# Altium footprint library HGH.PcbLib: 336 footprints (part 10 of 21)
Each footprint in its own frame and in the unit in brackets; x right, y up, seen from the top. Pads: shape width x height; smd on the part's side, far side on the other; paste and mask are expansions set on the pad; w line width, h text height; cw(c..) or ccw(c..) is an arc to the next point about the centre after c.
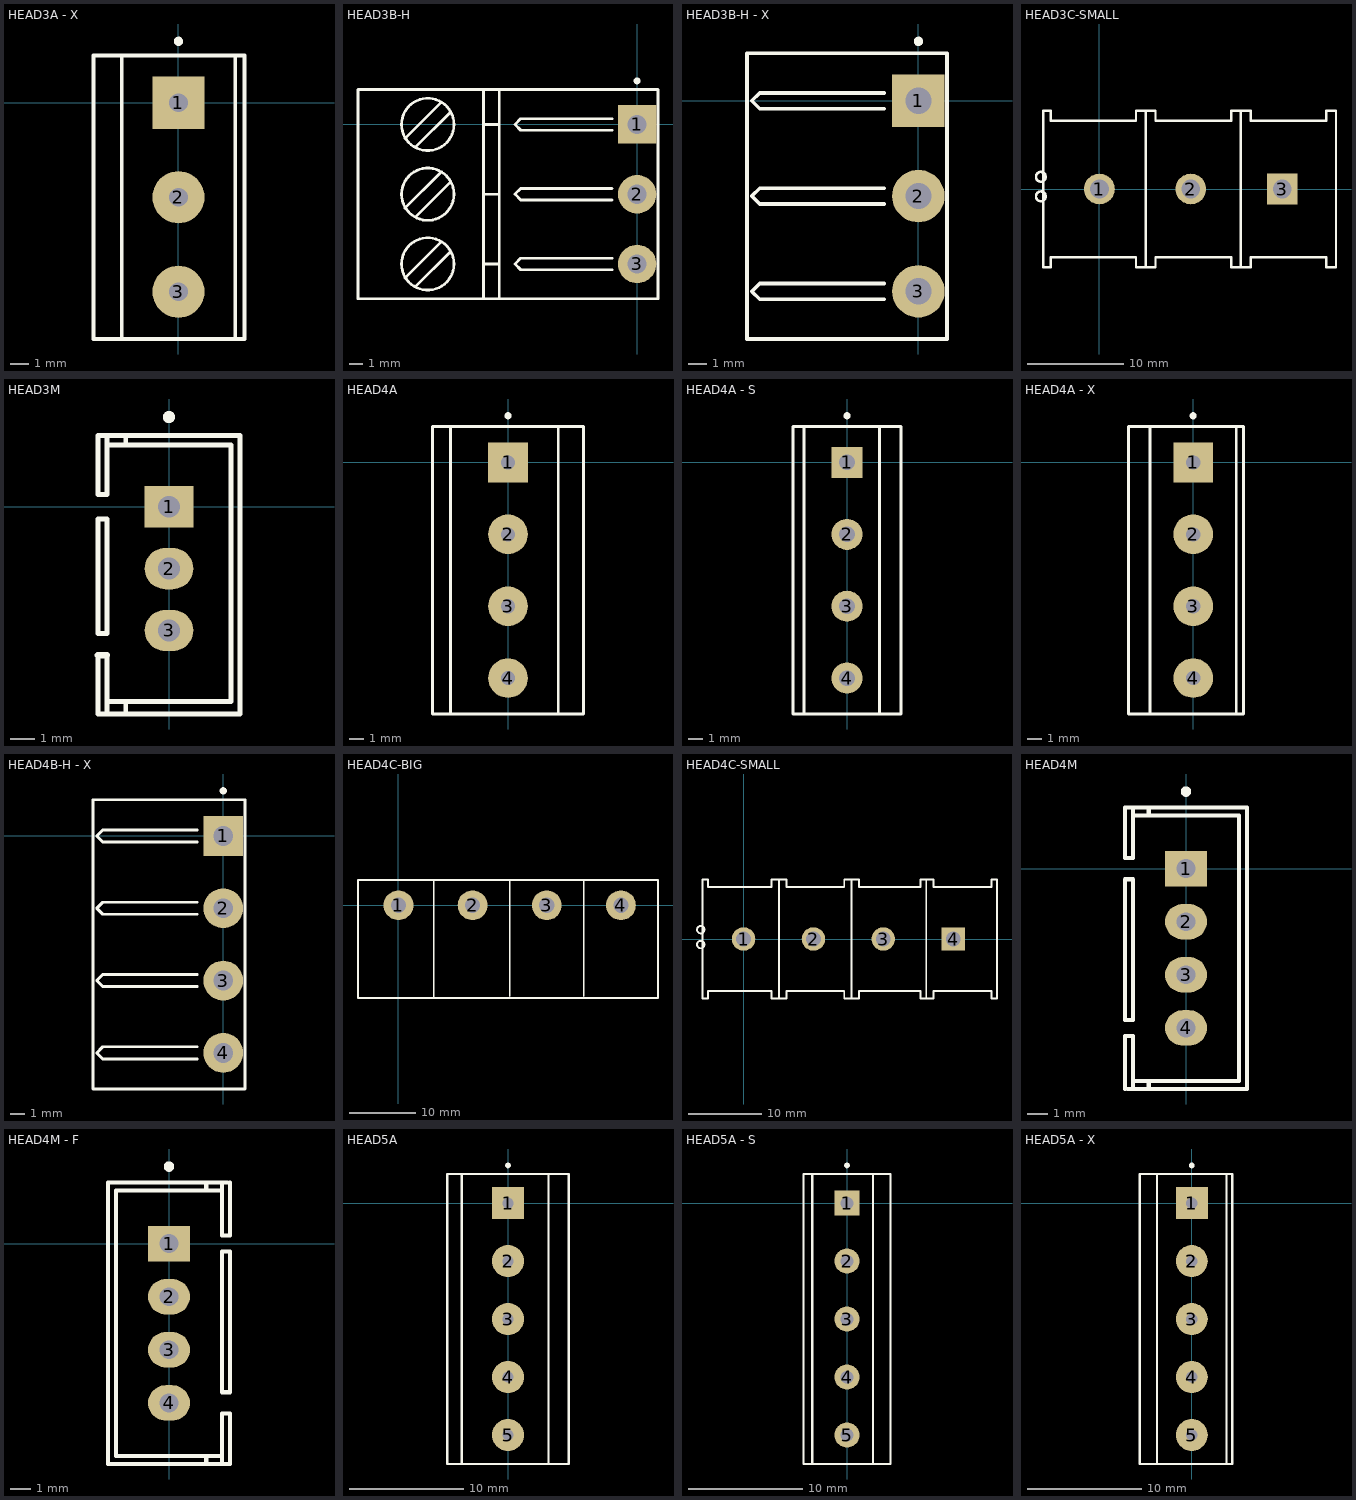
[diagram p9: the footprints below, top view; thin cyan lines are the x and y axes]

## HEAD3A - X [mm]
pads (3):
  rect 2.8x2.8 hole 1: 1(0,0)
  round 2.8 hole 1: 2(0,-5.08) 3(0,-10.16)
Top Overlay:
  circle w0.25: c0,3.3 r0.125
  lines w0.2: -3.048,-12.7 -3.048,2.54 ; 3.048,-12.7 3.048,2.54 ; -4.572,-12.7 3.556,-12.7 3.556,2.54 -4.572,2.54 -4.572,-12.7

## HEAD3B-H [mm]
pads (3):
  rect 2.8x2.8 hole 1.4: 1(0,0)
  round 2.8 hole 1.4: 2(0,-5.08) 3(0,-10.16)
Top Overlay:
  circle w0.25: c0,3.173 r0.125
  circle w0.2: c-15.24,0 r1.905
  circle w0.2: c-15.24,-5.08 r1.905
  circle w0.2: c-15.24,-10.16 r1.905
  lines w0.2: -16.891,-11.176 -14.351,-8.636 ; -16.891,-6.096 -14.351,-3.556 ; -16.891,-1.016 -14.351,1.524 ; -16.129,-11.811 -13.589,-9.271 ; -16.129,-6.731 -13.589,-4.191 ; -16.129,-1.651 -13.589,0.889 ; -11.176,-10.16 -10.033,-10.16 ; -11.176,-5.08 -10.033,-5.08 ; -11.176,0 -10.033,0 ; -11.176,2.54 -11.176,-12.7 ; -10.033,-12.7 -10.033,2.54 ; -1.82,-10.583 -8.467,-10.583 -8.89,-10.16 -8.467,-9.737 -1.82,-9.737 ; -1.82,-5.503 -8.467,-5.503 -8.89,-5.08 -8.467,-4.657 -1.82,-4.657 ; -1.82,-0.423 -8.467,-0.423 -8.89,0 -8.467,0.423 -1.82,0.423 ; -11.176,-12.7 -20.32,-12.7 -20.32,2.54 1.524,2.54 1.524,-12.7 -11.176,-12.7

## HEAD3B-H - X [mm]
pads (3):
  rect 2.8x2.8 hole 1.4: 1(0,0)
  round 2.8 hole 1.4: 2(0,-5.08) 3(0,-10.16)
Top Overlay:
  circle w0.25: c0,3.173 r0.125
  lines w0.2: -1.82,-10.583 -8.467,-10.583 -8.89,-10.16 -8.467,-9.737 -1.82,-9.737 ; -1.82,-5.503 -8.467,-5.503 -8.89,-5.08 -8.467,-4.657 -1.82,-4.657 ; -1.82,-0.423 -8.467,-0.423 -8.89,0 -8.467,0.423 -1.82,0.423 ; -9.144,-12.7 -9.144,2.54 1.524,2.54 1.524,-12.7 -9.144,-12.7

## HEAD3C-SMALL [mm]
pads (3):
  round 3.2 hole 2: 1(0,0)
  round 3.2 hole 1.95: 2(9.525,0)
  rect 3.2x3.2 hole 1.95: 3(19.05,0)
Top Overlay:
  circle w0.254: c-6.096,-0.762 r0.508
  circle w0.254: c-6.096,1.27 r0.508
  lines w0.254: 4.064,-8.128 5.842,-8.128 5.842,-7.112 13.716,-7.112 13.716,-8.128 14.732,-8.128 ; 4.318,-8.128 3.81,-8.128 3.81,-7.112 -5.08,-7.112 -5.08,-8.128 -5.842,-8.128 -5.842,8.128 -5.08,8.128 -5.08,7.112 3.81,7.112 3.81,8.128 5.842,8.128 5.842,7.112 13.716,7.112 13.716,8.128 14.732,8.128 ; 4.826,-8.128 4.826,8.128 ; 14.732,-8.128 14.732,8.128 ; 14.732,-8.128 14.732,8.128 ; 14.732,-8.128 15.748,-8.128 15.748,-7.112 23.622,-7.112 23.622,-8.128 24.638,-8.128 24.638,8.128 23.622,8.128 23.622,7.112 15.748,7.112 15.748,8.128 14.732,8.128

## HEAD3M [mm]
pads (3):
  rect 2x1.7 hole 0.9: 1(0,0)
  oval 2x1.7 hole 0.9: 2(0,-2.54) 3(0,-5.08)
Top Overlay:
  circle w0.25: c0,3.681 r0.125
  lines w0.2: -2.921,-6.096 -2.921,-8.509 2.921,-8.509 2.921,2.921 -2.921,2.921 -2.921,0.508 -2.54,0.508 -2.54,2.54 ; -2.54,-8.509 -2.54,-6.096 ; -2.54,-8.001 2.54,-8.001 2.54,2.54 -2.54,2.54 ; -2.54,2.794 -2.54,2.54 ; -1.778,-8.509 -1.778,-8.128 ; -1.778,2.54 -1.778,2.921 ; -2.921,-5.207 -2.921,-0.508 -2.54,-0.508 -2.54,-5.207 -2.921,-5.207
  lines w0.254: -2.921,-6.096 -2.54,-6.096

## HEAD4A [mm]
pads (4):
  rect 2.8x2.8 hole 1: 1(0,0)
  round 2.8 hole 1: 2(0,-5.08) 3(0,-10.16) 4(0,-15.24)
Top Overlay:
  circle w0.25: c0,3.3 r0.125
  lines w0.2: -4.064,-17.78 -4.064,-7.62 -4.064,2.54 ; 3.556,-17.78 3.556,-7.62 3.556,2.54 ; -5.334,-17.78 -5.334,-7.62 -5.334,2.54 5.334,2.54 5.334,-7.62 5.334,-17.78 -5.334,-17.78

## HEAD4A - S [mm]
pads (4):
  rect 2.2x2.2 hole 1.1: 1(0,0)
  round 2.2 hole 1.1: 2(0,-5.08) 3(0,-10.16) 4(0,-15.24)
Top Overlay:
  circle w0.25: c0,3.3 r0.125
  lines w0.2: -3.048,-17.78 -3.048,-7.62 -3.048,2.54 ; 2.286,-17.78 2.286,-7.62 2.286,2.54 ; -3.81,-17.78 3.81,-17.78 3.81,-7.62 3.81,2.54 -3.81,2.54 -3.81,-7.62 -3.81,-17.78

## HEAD4A - X [mm]
pads (4):
  rect 2.8x2.8 hole 1: 1(0,0)
  round 2.8 hole 1: 2(0,-5.08) 3(0,-10.16) 4(0,-15.24)
Top Overlay:
  circle w0.25: c0,3.3 r0.125
  lines w0.2: -3.048,-17.78 -3.048,2.54 ; 3.048,-17.78 3.048,2.54 ; -4.572,-17.78 3.556,-17.78 3.556,2.54 -4.572,2.54 -4.572,-17.78

## HEAD4B-H - X [mm]
pads (4):
  rect 2.8x2.8 hole 1.4: 1(0,0)
  round 2.8 hole 1.4: 2(0,-5.08) 3(0,-10.16) 4(0,-15.24)
Top Overlay:
  circle w0.25: c0,3.173 r0.125
  lines w0.2: -1.82,-15.663 -8.467,-15.663 -8.89,-15.24 -8.467,-14.817 -1.82,-14.817 ; -1.82,-10.583 -8.467,-10.583 -8.89,-10.16 -8.467,-9.737 -1.82,-9.737 ; -1.82,-5.503 -8.467,-5.503 -8.89,-5.08 -8.467,-4.657 -1.82,-4.657 ; -1.82,-0.423 -8.467,-0.423 -8.89,0 -8.467,0.423 -1.82,0.423 ; -9.144,-17.78 -9.144,-7.62 -9.144,2.54 1.524,2.54 1.524,-7.62 1.524,-17.78 -9.144,-17.78

## HEAD4C-BIG [mm]
pads (4):
  round 4.5 hole 2.3: 1(0,0) 2(11.176,0) 3(22.352,0) 4(33.528,0)
Top Overlay:
  lines w0.254: 4.826,3.81 5.842,3.81 ; 5.334,-13.97 5.334,3.81 ; 16.764,-13.716 16.764,3.81 ; 27.94,-13.716 27.94,3.81 ; 39.116,-13.97 39.116,3.81 ; 39.116,-13.97 39.116,3.81 ; 39.116,-13.97 -6.096,-13.97 -6.096,3.81 39.116,3.81

## HEAD4C-SMALL [mm]
pads (4):
  round 3.2 hole 2: 1(0,0) 2(9.525,0) 3(19.05,0)
  rect 3.2x3.2 hole 2: 4(28.575,0)
Top Overlay:
  circle w0.254: c-5.842,1.27 r0.508
  circle w0.254: c-5.842,-0.762 r0.508
  lines w0.254: 4.064,-8.128 5.842,-8.128 5.842,-7.112 13.716,-7.112 13.716,-8.128 14.732,-8.128 ; 4.318,-8.128 3.81,-8.128 3.81,-7.112 -4.826,-7.112 -4.826,-8.128 -5.588,-8.128 -5.588,8.128 -4.826,8.128 -4.826,7.112 3.81,7.112 3.81,8.128 5.842,8.128 5.842,7.112 13.716,7.112 13.716,8.128 14.732,8.128 ; 4.826,-8.128 4.826,8.128 ; 25.146,-8.128 24.13,-8.128 24.13,-7.112 15.748,-7.112 15.748,-8.128 14.732,-8.128 ; 25.146,8.128 24.13,8.128 24.13,7.112 15.748,7.112 15.748,8.128 14.732,8.128 ; 33.782,-7.874 33.782,-7.112 25.908,-7.112 25.908,-8.128 24.892,-8.128 ; 33.782,-7.62 33.782,-8.128 34.544,-8.128 34.544,-7.874 34.544,-3.556 34.544,0.254 34.544,8.128 34.036,8.128 33.782,8.128 33.782,7.112 25.908,7.112 25.908,8.128 24.892,8.128 ; 14.732,-8.128 14.732,8.128 ; 14.732,-8.128 14.732,8.128 ; 24.892,-8.128 24.892,8.128 ; 24.892,-8.128 24.892,8.128 ; 24.892,-8.128 24.892,8.128

## HEAD4M [mm]
pads (4):
  rect 2x1.7 hole 0.9: 1(0,0)
  oval 2x1.7 hole 0.9: 2(0,-2.54) 3(0,-5.08) 4(0,-7.62)
Top Overlay:
  circle w0.25: c0,3.681 r0.125
  lines w0.2: -2.921,-10.541 -2.921,-8.001 -2.54,-8.001 -2.54,-10.414 ; -2.794,-10.541 2.921,-10.541 2.921,2.921 -2.921,2.921 -2.921,0.508 -2.54,0.508 -2.54,2.54 ; -2.54,-10.16 2.54,-10.16 2.54,2.54 -2.54,2.54 ; -2.54,2.794 -2.54,2.54 ; -1.778,-10.541 -1.778,-10.16 ; -1.778,2.54 -1.778,2.921 ; -2.921,-7.239 -2.921,-0.508 -2.54,-0.508 -2.54,-7.239 -2.921,-7.239

## HEAD4M - F [mm]
pads (4):
  rect 2x1.7 hole 0.9: 1(0,0)
  oval 2x1.7 hole 0.9: 2(0,-2.54) 3(0,-5.08) 4(0,-7.62)
Top Overlay:
  circle w0.25: c0,3.681 r0.125
  lines w0.2: 1.778,-10.541 1.778,-10.16 ; 1.778,2.54 1.778,2.921 ; 2.54,-10.414 2.54,-10.16 ; 2.54,2.54 -2.54,2.54 -2.54,-10.16 2.54,-10.16 ; 2.54,2.794 2.54,0.381 2.921,0.381 2.921,2.921 ; 2.794,2.921 -2.921,2.921 -2.921,-10.541 2.921,-10.541 2.921,-8.128 2.54,-8.128 2.54,-10.16 ; 2.54,-7.112 2.921,-7.112 2.921,-0.381 2.54,-0.381 2.54,-7.112

## HEAD5A [mm]
pads (5):
  rect 2.8x2.8 hole 1: 1(0,0)
  round 2.8 hole 1: 2(0,-5.08) 3(0,-10.16) 4(0,-15.24) 5(0,-20.32)
Top Overlay:
  circle w0.25: c0,3.3 r0.125
  lines w0.2: -4.064,-22.86 -4.064,-7.62 -4.064,2.54 ; 3.556,-22.86 3.556,-7.62 3.556,2.54 ; -5.334,-22.86 -5.334,-7.62 -5.334,2.54 5.334,2.54 5.334,-7.62 5.334,-22.86 -5.334,-22.86

## HEAD5A - S [mm]
pads (5):
  rect 2.2x2.2 hole 1.1: 1(0,0)
  round 2.2 hole 1.1: 2(0,-5.08) 3(0,-10.16) 4(0,-15.24) 5(0,-20.32)
Top Overlay:
  circle w0.25: c0,3.3 r0.125
  lines w0.2: -3.048,-22.86 -3.048,-12.7 -3.048,2.54 ; 2.286,-22.86 2.286,-12.7 2.286,2.54 ; -3.81,-22.86 3.81,-22.86 3.81,-12.7 3.81,2.54 -3.81,2.54 -3.81,-12.7 -3.81,-22.86

## HEAD5A - X [mm]
pads (5):
  rect 2.8x2.8 hole 1: 1(0,0)
  round 2.8 hole 1: 2(0,-5.08) 3(0,-10.16) 4(0,-15.24) 5(0,-20.32)
Top Overlay:
  circle w0.25: c0,3.3 r0.125
  lines w0.2: -3.048,-22.86 -3.048,2.54 ; 3.048,-22.86 3.048,2.54 ; -4.572,-22.86 3.556,-22.86 3.556,2.54 -4.572,2.54 -4.572,-22.86